# Altium integrated library TI Power Management DC-DC Controller (External Switch).IntLib: 349 symbols (part 23 of 28)
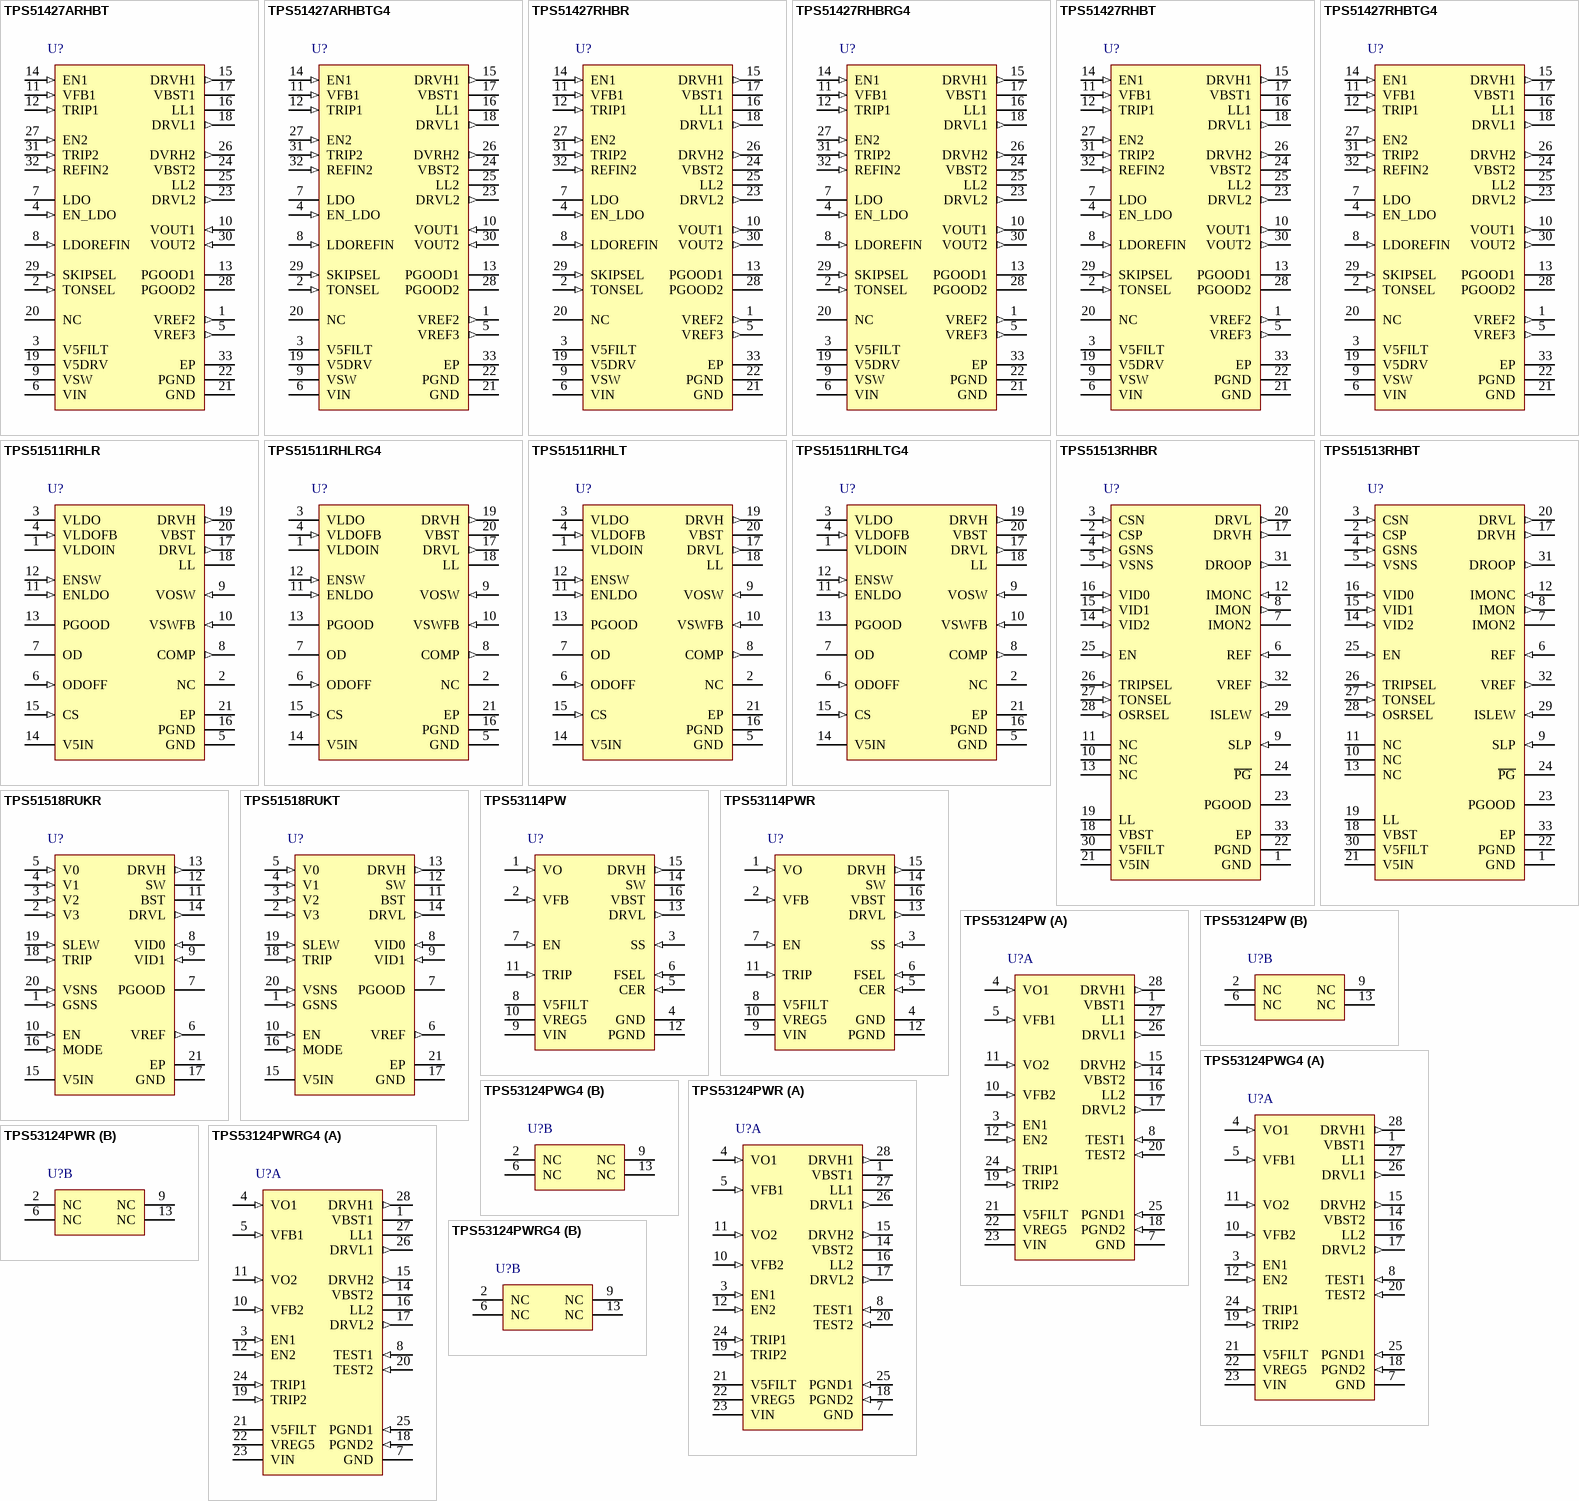
[diagram p36: symbols TPS51427ARHBT to TPS53124PWRG4]

## TPS53124PWR
designator U?
Dual Synchronous Step-Down Controller for Low Voltage Power Rails, 380 kHz Frequency, 89 % Duty Cycle, 4.5 to 24 V, -40 to 85 degC, 28-pin TSSOP (PW), Green (RoHS & no Sb/Br); Manufacturer: Texas Instruments; PartNumber: TPS53124PWR; Duty Cycle(Max)(%): 89; Iout(Max)(A): 15; Regulated Outputs(#): 2; SubFamily: Multiple-Output Switching Controller; Switching Frequency(Max)(kHz): 380; Synchronous Rectification: TRUE; Topology: Buck, D-CAP Mode"; Vin(Max)(V): 24; Vin(Min)(V): 4.5; Vout(Max)(V): 5.5; Vout(Min)(V): 0.76; DatasheetVersion: SLUS825B; PackageVersion: revG, Feb-2011; PackageReference: PW28; PackageDescription: 28-Pin Plastic Thin Small Outline Package 9.7 x 4.4 mm Body ,0.65 mm Pitch; Supplier 1: Digi-Key; Supplier Part Number 1: TPS53124PWR-ND; Supplier 2: Mouser; Supplier Part Number 2: 595-TPS53124PWR; Eco-Plan: Green (RoHS & no Sb/Br); Iout2(A): 15; Vout2(Max)(V): 5.5; Vout2(Min)(V): 0.76; Mounting Technology: Surface Mount; Code_JEDEC: MO-153; ComponentLink1Description: Datasheet; ComponentLink1URL: http://www.ti.com/general/docs/lit/getliterature.tsp?genericPartNumber=TPS53124&fileType=pdf; ComponentLink2Description: Package Specification; ComponentLink2URL: http://www.ti.com/litv/pdf/mpds364
footprint PW28_N (TSOP, 28-Leads, Body 9.7x4.4mm, Pitch 0.65mm, IPC Medium Density)
footprint PW28_L (TSOP, 28-Leads, Body 9.7x4.4mm, Pitch 0.65mm, IPC High Density)
footprint PW28_M (TSOP, 28-Leads, Body 9.7x4.4mm, Pitch 0.65mm, IPC Low Density)
part A pins: 1 VBST1 (power) "Supply input for high-side NFET driver (boost terminal). Connect capacitor from this pin to respective LL terminals. An internal PN diode is connected between VREG5 to each of these pins. User can add external schottky diode (See Datasheet)", 3 EN1 (in) "Channel 1 and Channel 2 enable pins.", 4 VO1 (in) "Output connections to SMPS. These terminals serve ON-time adjustment,output discharge.", 5 VFB1 (in) "SMPS feedback inputs. Connect with feedback resistor divider.", 7 GND (power) "Signal ground pin.", 8 TEST1 (in) "Used for test only. Pin should be connected to GND", 10 VFB2 (in) "SMPS feedback inputs. Connect with feedback resistor divider", 11 VO2 (in) "Output connections to SMPS. These terminals serve ON-time adjustment,output discharge.", 12 EN2 (in) "Channel 1 and Channel 2 enable pins.", 14 VBST2 (power) "Supply input for high-side NFET driver (boost terminal). Connect capacitor from this pin to respective LL terminals. An internal PN diode is connected between VREG5 to each of these pins. User can add external schottky diode (See Datasheet)", 15 DRVH2 (out) "High-side NFET driver outputs. LL referenced floating drivers. The gate drive voltage is defined by the voltage across VBST to LL node flying capacitor.", 16 LL2 (power) "Switch-node connections for high-side drivers. Also serve as input to current comparators.", 17 DRVL2 (out) "Synchronous NFET driver outputs. PGND referenced drivers. The gate drive voltage is defined by VREG5 voltage.", 18 PGND2 (in) "Ground returns for DRVL1 and DRVL2. Also serve as input of current comparators. Connect PGND1, PGND2 and GND strongly together near the device.", 19 TRIP2 (in) "Over-current trip point set input. Connect resistor from this pin to GND to set threshold for synchronous R DS(on) sense. Voltage across this pin and GND is compared to voltage across PGND and LL at over current comparator.", 20 TEST2 (in) "Used for test only. Pin should be connected to GND", 21 V5FILT (power) "5-V supply input for the entire control circuit except the NFET drivers. Connect capacitor (typical 1 µ F) from GND to V5FILT. V5FILT is connected to VREG5 via internal resistor.", 22 VREG5 (power) "5-V power supply output. VREG5 is connected to V5FILT via internal resistor.", 23 VIN (power) "Supply Input for 5-V linear regulator.", 24 TRIP1 (in) "Over-current trip point set input. Connect resistor from this pin to GND to set threshold for synchronous R DS(on) sense. Voltage across this pin and GND is compared to voltage across PGND and LL at over current comparator.", 25 PGND1 (in) "Ground returns for DRVL1 and DRVL2. Also serve as input of current comparators. Connect PGND1, PGND2 and GND strongly together near the device.", 26 DRVL1 (out) "Synchronous NFET driver outputs. PGND referenced drivers. The gate drive voltage is defined by VREG5 voltage.", 27 LL1 (power) "Switch-node connections for high-side drivers. Also serve as input to current comparators.", 28 DRVH1 (out) "High-side NFET driver outputs. LL referenced floating drivers. The gate drive voltage is defined by the voltage across VBST to LL node flying capacitor."
part B pins: 2 NC "Not Connect", 6 NC "Not Connect", 9 NC "Not Connect", 13 NC "Not Connect"

## TPS53124PWRG4
designator U?
Dual Synchronous Step-Down Controller for Low Voltage Power Rails, 380 kHz Frequency, 89 % Duty Cycle, 4.5 to 24 V, -40 to 85 degC, 28-pin TSSOP (PW), Green (RoHS & no Sb/Br); Manufacturer: Texas Instruments; PartNumber: TPS53124PWRG4; Duty Cycle(Max)(%): 89; Iout(Max)(A): 15; Regulated Outputs(#): 2; SubFamily: Multiple-Output Switching Controller; Switching Frequency(Max)(kHz): 380; Synchronous Rectification: TRUE; Topology: Buck, D-CAP Mode"; Vin(Max)(V): 24; Vin(Min)(V): 4.5; Vout(Max)(V): 5.5; Vout(Min)(V): 0.76; DatasheetVersion: SLUS825B; PackageVersion: revG, Feb-2011; PackageReference: PW28; PackageDescription: 28-Pin Plastic Thin Small Outline Package 9.7 x 4.4 mm Body ,0.65 mm Pitch; Supplier 1: Digi-Key; Supplier Part Number 1: TPS53124PWRG4-ND; Supplier 2: Mouser; Supplier Part Number 2: 595-TPS53124PWRG4; Eco-Plan: Green (RoHS & no Sb/Br); Iout2(A): 15; Vout2(Max)(V): 5.5; Vout2(Min)(V): 0.76; Mounting Technology: Surface Mount; Code_JEDEC: MO-153; ComponentLink1Description: Datasheet; ComponentLink1URL: http://www.ti.com/general/docs/lit/getliterature.tsp?genericPartNumber=TPS53124&fileType=pdf; ComponentLink2Description: Package Specification; ComponentLink2URL: http://www.ti.com/litv/pdf/mpds364
footprint PW28_N (TSOP, 28-Leads, Body 9.7x4.4mm, Pitch 0.65mm, IPC Medium Density)
footprint PW28_L (TSOP, 28-Leads, Body 9.7x4.4mm, Pitch 0.65mm, IPC High Density)
footprint PW28_M (TSOP, 28-Leads, Body 9.7x4.4mm, Pitch 0.65mm, IPC Low Density)
part A pins: 1 VBST1 (power) "Supply input for high-side NFET driver (boost terminal). Connect capacitor from this pin to respective LL terminals. An internal PN diode is connected between VREG5 to each of these pins. User can add external schottky diode (See Datasheet)", 3 EN1 (in) "Channel 1 and Channel 2 enable pins.", 4 VO1 (in) "Output connections to SMPS. These terminals serve ON-time adjustment,output discharge.", 5 VFB1 (in) "SMPS feedback inputs. Connect with feedback resistor divider.", 7 GND (power) "Signal ground pin.", 8 TEST1 (in) "Used for test only. Pin should be connected to GND", 10 VFB2 (in) "SMPS feedback inputs. Connect with feedback resistor divider", 11 VO2 (in) "Output connections to SMPS. These terminals serve ON-time adjustment,output discharge.", 12 EN2 (in) "Channel 1 and Channel 2 enable pins.", 14 VBST2 (power) "Supply input for high-side NFET driver (boost terminal). Connect capacitor from this pin to respective LL terminals. An internal PN diode is connected between VREG5 to each of these pins. User can add external schottky diode (See Datasheet)", 15 DRVH2 (out) "High-side NFET driver outputs. LL referenced floating drivers. The gate drive voltage is defined by the voltage across VBST to LL node flying capacitor.", 16 LL2 (power) "Switch-node connections for high-side drivers. Also serve as input to current comparators.", 17 DRVL2 (out) "Synchronous NFET driver outputs. PGND referenced drivers. The gate drive voltage is defined by VREG5 voltage.", 18 PGND2 (in) "Ground returns for DRVL1 and DRVL2. Also serve as input of current comparators. Connect PGND1, PGND2 and GND strongly together near the device.", 19 TRIP2 (in) "Over-current trip point set input. Connect resistor from this pin to GND to set threshold for synchronous R DS(on) sense. Voltage across this pin and GND is compared to voltage across PGND and LL at over current comparator.", 20 TEST2 (in) "Used for test only. Pin should be connected to GND", 21 V5FILT (power) "5-V supply input for the entire control circuit except the NFET drivers. Connect capacitor (typical 1 µ F) from GND to V5FILT. V5FILT is connected to VREG5 via internal resistor.", 22 VREG5 (power) "5-V power supply output. VREG5 is connected to V5FILT via internal resistor.", 23 VIN (power) "Supply Input for 5-V linear regulator.", 24 TRIP1 (in) "Over-current trip point set input. Connect resistor from this pin to GND to set threshold for synchronous R DS(on) sense. Voltage across this pin and GND is compared to voltage across PGND and LL at over current comparator.", 25 PGND1 (in) "Ground returns for DRVL1 and DRVL2. Also serve as input of current comparators. Connect PGND1, PGND2 and GND strongly together near the device.", 26 DRVL1 (out) "Synchronous NFET driver outputs. PGND referenced drivers. The gate drive voltage is defined by VREG5 voltage.", 27 LL1 (power) "Switch-node connections for high-side drivers. Also serve as input to current comparators.", 28 DRVH1 (out) "High-side NFET driver outputs. LL referenced floating drivers. The gate drive voltage is defined by the voltage across VBST to LL node flying capacitor."
part B pins: 2 NC "Not Connect", 6 NC "Not Connect", 9 NC "Not Connect", 13 NC "Not Connect"

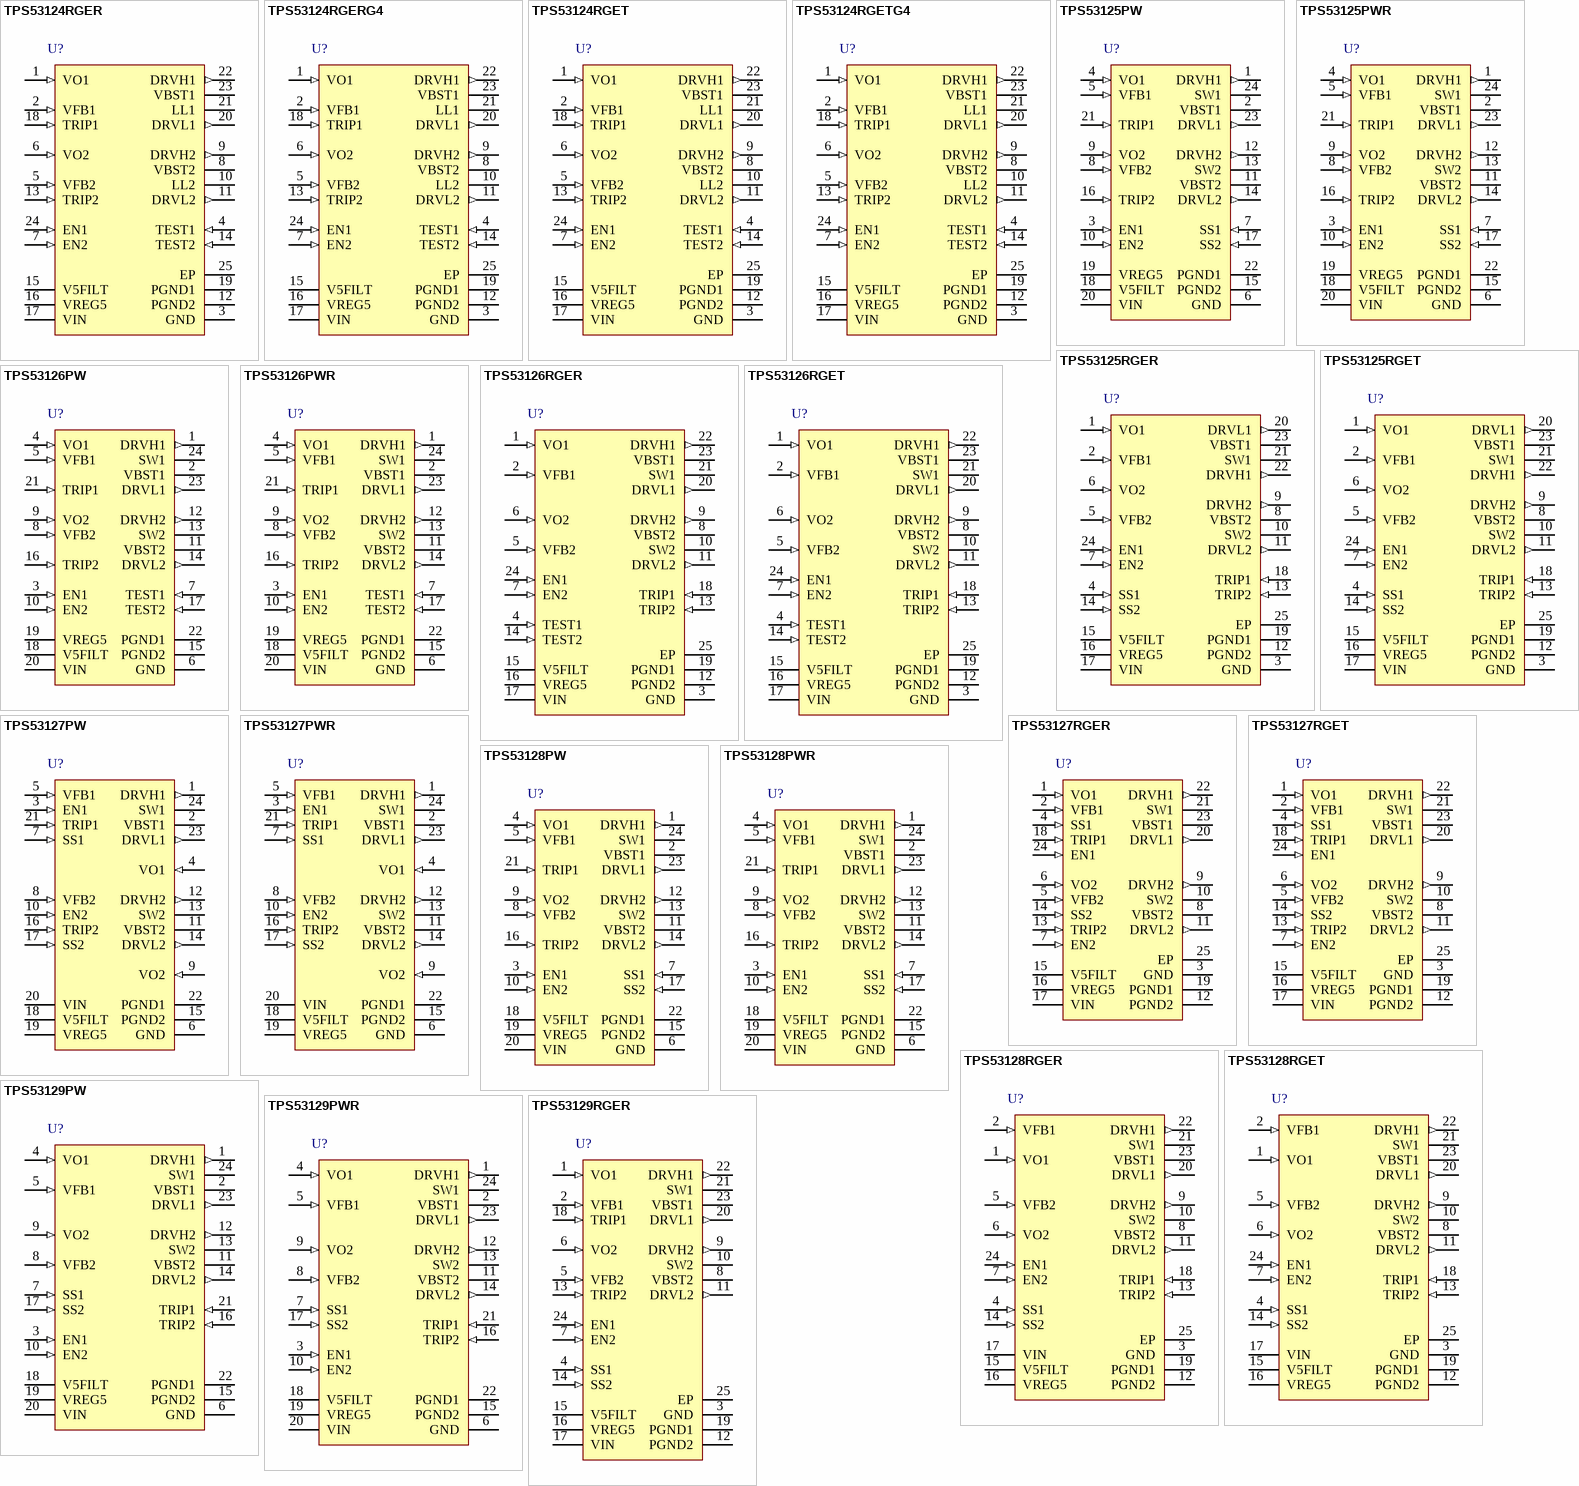
[diagram p12: symbols TPS53124RGER to TPS53129RGER]

## TPS53124RGER
designator U?
Dual Synchronous Step-Down Controller for Low Voltage Power Rails, 380 kHz Frequency, 89 % Duty Cycle, 4.5 to 24 V, -40 to 85 degC, 24-pin VQFN (RGE), Green (RoHS & no Sb/Br); Manufacturer: Texas Instruments; PartNumber: TPS53124RGER; Duty Cycle(Max)(%): 89; Iout(Max)(A): 15; Regulated Outputs(#): 2; SubFamily: Multiple-Output Switching Controller; Switching Frequency(Max)(kHz): 380; Synchronous Rectification: TRUE; Topology: Buck, D-CAP Mode"; Vin(Max)(V): 24; Vin(Min)(V): 4.5; Vout(Max)(V): 5.5; Vout(Min)(V): 0.76; DatasheetVersion: SLUS825B; PackageVersion: revG, Jul-2011; PackageReference: RGE24-2450X2450TP; PackageDescription: 24-Pin Plastic Quad Flatpack No-Lead, 4 x 4 mm Body, 0.5 mm Pitch; Supplier 1: Digi-Key; Supplier Part Number 1: 296-23171-2-ND; Supplier 2: Digi-Key; Supplier Part Number 2: 296-23171-1-ND; Supplier 3: Digi-Key; Supplier Part Number 3: 296-23171-6-ND; Supplier 4: Mouser; Supplier Part Number 4: 595-TPS53124RGER; Eco-Plan: Green (RoHS & no Sb/Br); Iout2(A): 15; Vout2(Max)(V): 5.5; Vout2(Min)(V): 0.76; Mounting Technology: Surface Mount; Code_JEDEC: MO-220; ComponentLink1Description: Datasheet; ComponentLink1URL: http://www.ti.com/general/docs/lit/getliterature.tsp?genericPartNumber=TPS53124&fileType=pdf; ComponentLink2Description: Package Specification; ComponentLink2URL: http://www.ti.com/litv/pdf/mpqf124f
footprint RGE24-2450X2450TP (QFN, 24-Leads, Body 4x4mm, Pitch 0.5mm, Thermal Pad 2.45x2.45mm, TI Recommended)
pins: 1 VO1 (in) "Output connections to SMPS. These terminals serve ON-time adjustment, output discharge.", 2 VFB1 (in) "SMPS feedback inputs. Connect with feedback resistor divider.", 3 GND (power) "Signal ground pin.", 4 TEST1 (in) "Used for test only. Pin should be connected to GND", 5 VFB2 (in) "SMPS feedback inputs. Connect with feedback resistor divider.", 6 VO2 (in) "Output connections to SMPS. These terminals serve ON-time adjustment, output discharge.", 7 EN2 (in) "Channel 2 enable pin.", 8 VBST2 (power) "Supply input for high-side NFET driver (boost terminal). Connect capacitor from this pin to respective LL terminals. An internal PN diode is connected between VREG5 to each of these pins. User can add external schottky diode (See Datasheet)", 9 DRVH2 (out) "High-side NFET driver outputs. LL referenced floating drivers. The gate drive voltage is defined by the voltage across VBST to LL node flying capacitor.", 10 LL2 (power) "Switch-node connections for high-side drivers. Also serve as input to current comparators.", 11 DRVL2 (out) "Synchronous NFET driver outputs. PGND referenced drivers. The gate drive voltage is defined by VREG5 voltage.", 12 PGND2 (power) "Ground returns for DRVL1 and DRVL2. Also serve as input of current comparators. Connect PGND1, PGND2 and GND strongly together near the device.", 13 TRIP2 (in) "Over-current trip point set input. Connect resistor from this pin to GND to set threshold for synchronous RDS(on) sense. Voltage across this pin and GND is compared to voltage across PGND and LL at over current comparator.", 14 TEST2 (in) "Used for test only. Pin should be connected to GND", 15 V5FILT (power) "5-V supply input for the entire control circuit except the NFET drivers. Connect capacitor (typical 1 mF) from GND to V5FILT. V5FILT is connected to VREG5 via internal resistor.", 16 VREG5 (power) "5-V power supply output. VREG5 is connected to V5FILT via internal resistor.", 17 VIN (power) "Supply Input for 5-V linear regulator.", 18 TRIP1 (in) "Over-current trip point set input. Connect resistor from this pin to GND to set threshold for synchronous RDS(on) sense. Voltage across this pin and GND is compared to voltage across PGND and LL at over current comparator.", 19 PGND1 (power) "Ground returns for DRVL1 and DRVL2. Also serve as input of current comparators. Connect PGND1, PGND2 and GND strongly together near the device.", 20 DRVL1 (out) "Synchronous NFET driver outputs. PGND referenced drivers. The gate drive voltage is defined by VREG5 voltage.", 21 LL1 (power) "Switch-node connections for high-side drivers. Also serve as input to current comparators.", 22 DRVH1 (out) "High-side NFET driver outputs. LL referenced floating drivers. The gate drive voltage is defined by the voltage across VBST to LL node flying capacitor.", 23 VBST1 (power) "Supply input for high-side NFET driver (boost terminal). Connect capacitor from this pin to respective LL terminals. An internal PN diode is connected between VREG5 to each of these pins. User can add external schottky diode (See Datasheet)", 24 EN1 (in) "Channel 1 enable pin.", 25 EP "Exposed Pad."

## TPS53124RGERG4
designator U?
Dual Synchronous Step-Down Controller for Low Voltage Power Rails, 380 kHz Frequency, 89 % Duty Cycle, 4.5 to 24 V, -40 to 85 degC, 24-pin VQFN (RGE), Green (RoHS & no Sb/Br); Manufacturer: Texas Instruments; PartNumber: TPS53124RGERG4; Duty Cycle(Max)(%): 89; Iout(Max)(A): 15; Regulated Outputs(#): 2; SubFamily: Multiple-Output Switching Controller; Switching Frequency(Max)(kHz): 380; Synchronous Rectification: TRUE; Topology: Buck, D-CAP Mode"; Vin(Max)(V): 24; Vin(Min)(V): 4.5; Vout(Max)(V): 5.5; Vout(Min)(V): 0.76; DatasheetVersion: SLUS825B; PackageVersion: revG, Jul-2011; PackageReference: RGE24-2450X2450TP; PackageDescription: 24-Pin Plastic Quad Flatpack No-Lead, 4 x 4 mm Body, 0.5 mm Pitch; Supplier 1: Digi-Key; Supplier Part Number 1: TPS53124RGERG4-ND; Supplier 2: Newark; Supplier Part Number 2: 34P6502; Supplier 3: Mouser; Supplier Part Number 3: 595-TPS53124RGERG4; Eco-Plan: Green (RoHS & no Sb/Br); Iout2(A): 15; Vout2(Max)(V): 5.5; Vout2(Min)(V): 0.76; Mounting Technology: Surface Mount; Code_JEDEC: MO-220; ComponentLink1Description: Datasheet; ComponentLink1URL: http://www.ti.com/general/docs/lit/getliterature.tsp?genericPartNumber=TPS53124&fileType=pdf; ComponentLink2Description: Package Specification; ComponentLink2URL: http://www.ti.com/litv/pdf/mpqf124f
footprint RGE24-2450X2450TP (QFN, 24-Leads, Body 4x4mm, Pitch 0.5mm, Thermal Pad 2.45x2.45mm, TI Recommended)
pins: 1 VO1 (in) "Output connections to SMPS. These terminals serve ON-time adjustment, output discharge.", 2 VFB1 (in) "SMPS feedback inputs. Connect with feedback resistor divider.", 3 GND (power) "Signal ground pin.", 4 TEST1 (in) "Used for test only. Pin should be connected to GND", 5 VFB2 (in) "SMPS feedback inputs. Connect with feedback resistor divider.", 6 VO2 (in) "Output connections to SMPS. These terminals serve ON-time adjustment, output discharge.", 7 EN2 (in) "Channel 2 enable pin.", 8 VBST2 (power) "Supply input for high-side NFET driver (boost terminal). Connect capacitor from this pin to respective LL terminals. An internal PN diode is connected between VREG5 to each of these pins. User can add external schottky diode (See Datasheet)", 9 DRVH2 (out) "High-side NFET driver outputs. LL referenced floating drivers. The gate drive voltage is defined by the voltage across VBST to LL node flying capacitor.", 10 LL2 (power) "Switch-node connections for high-side drivers. Also serve as input to current comparators.", 11 DRVL2 (out) "Synchronous NFET driver outputs. PGND referenced drivers. The gate drive voltage is defined by VREG5 voltage.", 12 PGND2 (power) "Ground returns for DRVL1 and DRVL2. Also serve as input of current comparators. Connect PGND1, PGND2 and GND strongly together near the device.", 13 TRIP2 (in) "Over-current trip point set input. Connect resistor from this pin to GND to set threshold for synchronous RDS(on) sense. Voltage across this pin and GND is compared to voltage across PGND and LL at over current comparator.", 14 TEST2 (in) "Used for test only. Pin should be connected to GND", 15 V5FILT (power) "5-V supply input for the entire control circuit except the NFET drivers. Connect capacitor (typical 1 mF) from GND to V5FILT. V5FILT is connected to VREG5 via internal resistor.", 16 VREG5 (power) "5-V power supply output. VREG5 is connected to V5FILT via internal resistor.", 17 VIN (power) "Supply Input for 5-V linear regulator.", 18 TRIP1 (in) "Over-current trip point set input. Connect resistor from this pin to GND to set threshold for synchronous RDS(on) sense. Voltage across this pin and GND is compared to voltage across PGND and LL at over current comparator.", 19 PGND1 (power) "Ground returns for DRVL1 and DRVL2. Also serve as input of current comparators. Connect PGND1, PGND2 and GND strongly together near the device.", 20 DRVL1 (out) "Synchronous NFET driver outputs. PGND referenced drivers. The gate drive voltage is defined by VREG5 voltage.", 21 LL1 (power) "Switch-node connections for high-side drivers. Also serve as input to current comparators.", 22 DRVH1 (out) "High-side NFET driver outputs. LL referenced floating drivers. The gate drive voltage is defined by the voltage across VBST to LL node flying capacitor.", 23 VBST1 (power) "Supply input for high-side NFET driver (boost terminal). Connect capacitor from this pin to respective LL terminals. An internal PN diode is connected between VREG5 to each of these pins. User can add external schottky diode (See Datasheet)", 24 EN1 (in) "Channel 1 enable pin.", 25 EP "Exposed Pad."

## TPS53124RGET
designator U?
Dual Synchronous Step-Down Controller for Low Voltage Power Rails, 380 kHz Frequency, 89 % Duty Cycle, 4.5 to 24 V, -40 to 85 degC, 24-pin VQFN (RGE), Green (RoHS & no Sb/Br); Manufacturer: Texas Instruments; PartNumber: TPS53124RGET; Duty Cycle(Max)(%): 89; Iout(Max)(A): 15; Regulated Outputs(#): 2; SubFamily: Multiple-Output Switching Controller; Switching Frequency(Max)(kHz): 380; Synchronous Rectification: TRUE; Topology: Buck, D-CAP Mode"; Vin(Max)(V): 24; Vin(Min)(V): 4.5; Vout(Max)(V): 5.5; Vout(Min)(V): 0.76; DatasheetVersion: SLUS825B; PackageVersion: revG, Jul-2011; PackageReference: RGE24-2450X2450TP; PackageDescription: 24-Pin Plastic Quad Flatpack No-Lead, 4 x 4 mm Body, 0.5 mm Pitch; Supplier 1: Digi-Key; Supplier Part Number 1: TPS53124RGET-ND; Supplier 2: Mouser; Supplier Part Number 2: 595-TPS53124RGET; Eco-Plan: Green (RoHS & no Sb/Br); Iout2(A): 15; Vout2(Max)(V): 5.5; Vout2(Min)(V): 0.76; Mounting Technology: Surface Mount; Code_JEDEC: MO-220; ComponentLink1Description: Datasheet; ComponentLink1URL: http://www.ti.com/general/docs/lit/getliterature.tsp?genericPartNumber=TPS53124&fileType=pdf; ComponentLink2Description: Package Specification; ComponentLink2URL: http://www.ti.com/litv/pdf/mpqf124f
footprint RGE24-2450X2450TP (QFN, 24-Leads, Body 4x4mm, Pitch 0.5mm, Thermal Pad 2.45x2.45mm, TI Recommended)
pins: 1 VO1 (in) "Output connections to SMPS. These terminals serve ON-time adjustment, output discharge.", 2 VFB1 (in) "SMPS feedback inputs. Connect with feedback resistor divider.", 3 GND (power) "Signal ground pin.", 4 TEST1 (in) "Used for test only. Pin should be connected to GND", 5 VFB2 (in) "SMPS feedback inputs. Connect with feedback resistor divider.", 6 VO2 (in) "Output connections to SMPS. These terminals serve ON-time adjustment, output discharge.", 7 EN2 (in) "Channel 2 enable pin.", 8 VBST2 (power) "Supply input for high-side NFET driver (boost terminal). Connect capacitor from this pin to respective LL terminals. An internal PN diode is connected between VREG5 to each of these pins. User can add external schottky diode (See Datasheet)", 9 DRVH2 (out) "High-side NFET driver outputs. LL referenced floating drivers. The gate drive voltage is defined by the voltage across VBST to LL node flying capacitor.", 10 LL2 (power) "Switch-node connections for high-side drivers. Also serve as input to current comparators.", 11 DRVL2 (out) "Synchronous NFET driver outputs. PGND referenced drivers. The gate drive voltage is defined by VREG5 voltage.", 12 PGND2 (power) "Ground returns for DRVL1 and DRVL2. Also serve as input of current comparators. Connect PGND1, PGND2 and GND strongly together near the device.", 13 TRIP2 (in) "Over-current trip point set input. Connect resistor from this pin to GND to set threshold for synchronous RDS(on) sense. Voltage across this pin and GND is compared to voltage across PGND and LL at over current comparator.", 14 TEST2 (in) "Used for test only. Pin should be connected to GND", 15 V5FILT (power) "5-V supply input for the entire control circuit except the NFET drivers. Connect capacitor (typical 1 mF) from GND to V5FILT. V5FILT is connected to VREG5 via internal resistor.", 16 VREG5 (power) "5-V power supply output. VREG5 is connected to V5FILT via internal resistor.", 17 VIN (power) "Supply Input for 5-V linear regulator.", 18 TRIP1 (in) "Over-current trip point set input. Connect resistor from this pin to GND to set threshold for synchronous RDS(on) sense. Voltage across this pin and GND is compared to voltage across PGND and LL at over current comparator.", 19 PGND1 (power) "Ground returns for DRVL1 and DRVL2. Also serve as input of current comparators. Connect PGND1, PGND2 and GND strongly together near the device.", 20 DRVL1 (out) "Synchronous NFET driver outputs. PGND referenced drivers. The gate drive voltage is defined by VREG5 voltage.", 21 LL1 (power) "Switch-node connections for high-side drivers. Also serve as input to current comparators.", 22 DRVH1 (out) "High-side NFET driver outputs. LL referenced floating drivers. The gate drive voltage is defined by the voltage across VBST to LL node flying capacitor.", 23 VBST1 (power) "Supply input for high-side NFET driver (boost terminal). Connect capacitor from this pin to respective LL terminals. An internal PN diode is connected between VREG5 to each of these pins. User can add external schottky diode (See Datasheet)", 24 EN1 (in) "Channel 1 enable pin.", 25 EP "Exposed Pad."

## TPS53124RGETG4
designator U?
Dual Synchronous Step-Down Controller for Low Voltage Power Rails, 380 kHz Frequency, 89 % Duty Cycle, 4.5 to 24 V, -40 to 85 degC, 24-pin VQFN (RGE), Green (RoHS & no Sb/Br); Manufacturer: Texas Instruments; PartNumber: TPS53124RGETG4; Duty Cycle(Max)(%): 89; Iout(Max)(A): 15; Regulated Outputs(#): 2; SubFamily: Multiple-Output Switching Controller; Switching Frequency(Max)(kHz): 380; Synchronous Rectification: TRUE; Topology: Buck, D-CAP Mode"; Vin(Max)(V): 24; Vin(Min)(V): 4.5; Vout(Max)(V): 5.5; Vout(Min)(V): 0.76; DatasheetVersion: SLUS825B; PackageVersion: revG, Jul-2011; PackageReference: RGE24-2450X2450TP; PackageDescription: 24-Pin Plastic Quad Flatpack No-Lead, 4 x 4 mm Body, 0.5 mm Pitch; Supplier 1: Digi-Key; Supplier Part Number 1: TPS53124RGETG4-ND; Supplier 2: Newark; Supplier Part Number 2: 34P6503; Supplier 3: Mouser; Supplier Part Number 3: 595-TPS53124RGETG4; Eco-Plan: Green (RoHS & no Sb/Br); Iout2(A): 15; Vout2(Max)(V): 5.5; Vout2(Min)(V): 0.76; Mounting Technology: Surface Mount; Code_JEDEC: MO-220; ComponentLink1Description: Datasheet; ComponentLink1URL: http://www.ti.com/general/docs/lit/getliterature.tsp?genericPartNumber=TPS53124&fileType=pdf; ComponentLink2Description: Package Specification; ComponentLink2URL: http://www.ti.com/litv/pdf/mpqf124f
footprint RGE24-2450X2450TP (QFN, 24-Leads, Body 4x4mm, Pitch 0.5mm, Thermal Pad 2.45x2.45mm, TI Recommended)
pins: 1 VO1 (in) "Output connections to SMPS. These terminals serve ON-time adjustment, output discharge.", 2 VFB1 (in) "SMPS feedback inputs. Connect with feedback resistor divider.", 3 GND (power) "Signal ground pin.", 4 TEST1 (in) "Used for test only. Pin should be connected to GND", 5 VFB2 (in) "SMPS feedback inputs. Connect with feedback resistor divider.", 6 VO2 (in) "Output connections to SMPS. These terminals serve ON-time adjustment, output discharge.", 7 EN2 (in) "Channel 2 enable pin.", 8 VBST2 (power) "Supply input for high-side NFET driver (boost terminal). Connect capacitor from this pin to respective LL terminals. An internal PN diode is connected between VREG5 to each of these pins. User can add external schottky diode (See Datasheet)", 9 DRVH2 (out) "High-side NFET driver outputs. LL referenced floating drivers. The gate drive voltage is defined by the voltage across VBST to LL node flying capacitor.", 10 LL2 (power) "Switch-node connections for high-side drivers. Also serve as input to current comparators.", 11 DRVL2 (out) "Synchronous NFET driver outputs. PGND referenced drivers. The gate drive voltage is defined by VREG5 voltage.", 12 PGND2 (power) "Ground returns for DRVL1 and DRVL2. Also serve as input of current comparators. Connect PGND1, PGND2 and GND strongly together near the device.", 13 TRIP2 (in) "Over-current trip point set input. Connect resistor from this pin to GND to set threshold for synchronous RDS(on) sense. Voltage across this pin and GND is compared to voltage across PGND and LL at over current comparator.", 14 TEST2 (in) "Used for test only. Pin should be connected to GND", 15 V5FILT (power) "5-V supply input for the entire control circuit except the NFET drivers. Connect capacitor (typical 1 mF) from GND to V5FILT. V5FILT is connected to VREG5 via internal resistor.", 16 VREG5 (power) "5-V power supply output. VREG5 is connected to V5FILT via internal resistor.", 17 VIN (power) "Supply Input for 5-V linear regulator.", 18 TRIP1 (in) "Over-current trip point set input. Connect resistor from this pin to GND to set threshold for synchronous RDS(on) sense. Voltage across this pin and GND is compared to voltage across PGND and LL at over current comparator.", 19 PGND1 (power) "Ground returns for DRVL1 and DRVL2. Also serve as input of current comparators. Connect PGND1, PGND2 and GND strongly together near the device.", 20 DRVL1 (out) "Synchronous NFET driver outputs. PGND referenced drivers. The gate drive voltage is defined by VREG5 voltage.", 21 LL1 (power) "Switch-node connections for high-side drivers. Also serve as input to current comparators.", 22 DRVH1 (out) "High-side NFET driver outputs. LL referenced floating drivers. The gate drive voltage is defined by the voltage across VBST to LL node flying capacitor.", 23 VBST1 (power) "Supply input for high-side NFET driver (boost terminal). Connect capacitor from this pin to respective LL terminals. An internal PN diode is connected between VREG5 to each of these pins. User can add external schottky diode (See Datasheet)", 24 EN1 (in) "Channel 1 enable pin.", 25 EP "Exposed Pad."

## TPS53125PW
designator U?
Dual Synchronous Step-Down Controller for Low Voltage Power Rails, 89 % Duty Cycle, 4.5 to 24 V, -40 to 85 degC, 24-pin TSSOP (PW), Green (RoHS & no Sb/Br); Manufacturer: Texas Instruments; PartNumber: TPS53125PW; Duty Cycle(Max)(%): 89; Iout(Max)(A): 15; Regulated Outputs(#): 2; SubFamily: Multiple-Output Switching Controller; Switching Frequency(Max)(kHz): 350; Synchronous Rectification: TRUE; Topology: Buck, D-CAP 2 Mode"; Vin(Max)(V): 24; Vin(Min)(V): 4.5; Vout(Max)(V): 5.5; Vout(Min)(V): 0.76; DatasheetVersion: SLVS947B; PackageVersion: revG, Feb-2011; PackageReference: PW24; PackageDescription: 24-Pin Thin Small Outline Package 0.65 mm Pitch; Supplier 1: Digi-Key; Supplier Part Number 1: TPS53125PW-ND; Supplier 2: Newark; Supplier Part Number 2: 55R7576; Supplier 3: Mouser; Supplier Part Number 3: 595-TPS53125PW; Eco-Plan: Green (RoHS & no Sb/Br); Iout2(A): 15; Vout2(Max)(V): 5.5; Vout2(Min)(V): 0.76; Mounting Technology: Surface Mount; Code_JEDEC: MO-153; ComponentLink1Description: Datasheet; ComponentLink1URL: http://www.ti.com/general/docs/lit/getliterature.tsp?genericPartNumber=TPS53125&fileType=pdf; ComponentLink2Description: Package Specification; ComponentLink2URL: http://www.ti.com/litv/pdf/mpds177g
footprint PW24_N (TSOP, 24-Leads, Body 7.8x4.4mm, Pitch 0.65mm, IPC Medium Density)
footprint PW24_L (TSOP, 24-Leads, Body 7.8x4.4mm, Pitch 0.65mm, IPC High Density)
footprint PW24_M (TSOP, 24-Leads, Body 7.8x4.4mm, Pitch 0.65mm, IPC Low Density)
pins: 1 DRVH1 (out) "High-side N-Channel MOSFET gate driver outputs. SWx referenced drivers switch between SWx (OFF) and VBSTx (ON).", 2 VBST1 (power) "Supply input for high-side NFET driver. Bypass to SWx with a high-quality 0.1-uF ceramic capacitor. An external schottky diode can be added from VREG5 if forward drop is critical to drive the high-side FET.", 3 EN1 (in) "Enable. Pull High to enable SMPS.", 4 VO1 (in) "Output voltage inputs for on-time adjustment and output discharge. Connect directly to the output voltage.", 5 VFB1 (in) "D-CAP2 feedback inputs. Connect to output voltage with resistor divider.", 6 GND (power) "Signal ground pin. Connect to PGND1, PGND2 and system ground at a single point.", 7 SS1 (in) "Soft-start programming pin. Connect capacitor from SSx pin to GND to program soft-start time.", 8 VFB2 (in) "D-CAP2 feedback inputs. Connect to output voltage with resistor divider.", 9 VO2 (in) "Output voltage inputs for on-time adjustment and output discharge. Connect directly to the output voltage.", 10 EN2 (in) "Enable. Pull High to enable SMPS.", 11 VBST2 (power) "Supply input for high-side NFET driver. Bypass to SWx with a high-quality 0.1-uF ceramic capacitor. An external schottky diode can be added from VREG5 if forward drop is critical to drive the high-side FET.", 12 DRVH2 (out) "High-side N-Channel MOSFET gate driver outputs. SWx referenced drivers switch between SWx (OFF) and VBSTx (ON).", 13 SW2 (power) "Switch node connections for both the high-side drivers and the over current comparators.", 14 DRVL2 (out) "Low-side N-Channel MOSFET gate driver outputs. PGND referenced drivers switch between PGNDx (OFF) and VREG5 (ON).", 15 PGND2 (power) "Power ground connections for both the low-side drivers and the over current comparators. Connect PGND1, PGND2 and GND strongly together near the IC.", 16 TRIP2 (in) "Over current threshold programming pin. Connect to GND with a resistor to GND to set threshold for low-side RDS(ON) current limit.", 17 SS2 (in) "Soft-start programming pin. Connect capacitor from SSx pin to GND to program soft-start time.", 18 V5FILT (power) "5-V supply input for the entire control circuitry except the MOSFET drivers. Bypass to GND with a minimum high-quality 1.0-uF ceramic capacitor. V5FILT is connected to VREG5 via an internal 10-ohm resistor.", 19 VREG5 (power) "Output of 5-V linear regulator and supply for MOSFET drivers. Bypass to GND with a minimum high-quality 4.7-uF ceramic capacitor. VREG5 is connected to V5FILT via an internal 10-ohm resistor.", 20 VIN (power) "Supply Input for 5-V linear regulator. Bypass to GND with a minimum high-quality 0.1-uF ceramic capacitor.", 21 TRIP1 (in) "Over current threshold programming pin. Connect to GND with a resistor to GND to set threshold for low-side RDS(ON) current limit.", 22 PGND1 (power) "Power ground connections for both the low-side drivers and the over current comparators. Connect PGND1, PGND2 and GND strongly together near the IC.", 23 DRVL1 (out) "Low-side N-Channel MOSFET gate driver outputs. PGND referenced drivers switch between PGNDx (OFF) and VREG5 (ON).", 24 SW1 (power) "Switch node connections for both the high-side drivers and the over current comparators."

## TPS53125PWR
designator U?
Dual Synchronous Step-Down Controller for Low Voltage Power Rails, 89 % Duty Cycle, 4.5 to 24 V, -40 to 85 degC, 24-pin TSSOP (PW), Green (RoHS & no Sb/Br); Manufacturer: Texas Instruments; PartNumber: TPS53125PWR; Duty Cycle(Max)(%): 89; Iout(Max)(A): 15; Regulated Outputs(#): 2; SubFamily: Multiple-Output Switching Controller; Switching Frequency(Max)(kHz): 350; Synchronous Rectification: TRUE; Topology: Buck, D-CAP 2 Mode"; Vin(Max)(V): 24; Vin(Min)(V): 4.5; Vout(Max)(V): 5.5; Vout(Min)(V): 0.76; DatasheetVersion: SLVS947B; PackageVersion: revG, Feb-2011; PackageReference: PW24; PackageDescription: 24-Pin Thin Small Outline Package 0.65 mm Pitch; Supplier 1: Digi-Key; Supplier Part Number 1: TPS53125PWR-ND; Supplier 2: Newark; Supplier Part Number 2: 55R7577; Supplier 3: Mouser; Supplier Part Number 3: 595-TPS53125PWR; Eco-Plan: Green (RoHS & no Sb/Br); Iout2(A): 15; Vout2(Max)(V): 5.5; Vout2(Min)(V): 0.76; Mounting Technology: Surface Mount; Code_JEDEC: MO-153; ComponentLink1Description: Datasheet; ComponentLink1URL: http://www.ti.com/general/docs/lit/getliterature.tsp?genericPartNumber=TPS53125&fileType=pdf; ComponentLink2Description: Package Specification; ComponentLink2URL: http://www.ti.com/litv/pdf/mpds177g
footprint PW24_N (TSOP, 24-Leads, Body 7.8x4.4mm, Pitch 0.65mm, IPC Medium Density)
footprint PW24_L (TSOP, 24-Leads, Body 7.8x4.4mm, Pitch 0.65mm, IPC High Density)
footprint PW24_M (TSOP, 24-Leads, Body 7.8x4.4mm, Pitch 0.65mm, IPC Low Density)
pins: 1 DRVH1 (out) "High-side N-Channel MOSFET gate driver outputs. SWx referenced drivers switch between SWx (OFF) and VBSTx (ON).", 2 VBST1 (power) "Supply input for high-side NFET driver. Bypass to SWx with a high-quality 0.1-uF ceramic capacitor. An external schottky diode can be added from VREG5 if forward drop is critical to drive the high-side FET.", 3 EN1 (in) "Enable. Pull High to enable SMPS.", 4 VO1 (in) "Output voltage inputs for on-time adjustment and output discharge. Connect directly to the output voltage.", 5 VFB1 (in) "D-CAP2 feedback inputs. Connect to output voltage with resistor divider.", 6 GND (power) "Signal ground pin. Connect to PGND1, PGND2 and system ground at a single point.", 7 SS1 (in) "Soft-start programming pin. Connect capacitor from SSx pin to GND to program soft-start time.", 8 VFB2 (in) "D-CAP2 feedback inputs. Connect to output voltage with resistor divider.", 9 VO2 (in) "Output voltage inputs for on-time adjustment and output discharge. Connect directly to the output voltage.", 10 EN2 (in) "Enable. Pull High to enable SMPS.", 11 VBST2 (power) "Supply input for high-side NFET driver. Bypass to SWx with a high-quality 0.1-uF ceramic capacitor. An external schottky diode can be added from VREG5 if forward drop is critical to drive the high-side FET.", 12 DRVH2 (out) "High-side N-Channel MOSFET gate driver outputs. SWx referenced drivers switch between SWx (OFF) and VBSTx (ON).", 13 SW2 (power) "Switch node connections for both the high-side drivers and the over current comparators.", 14 DRVL2 (out) "Low-side N-Channel MOSFET gate driver outputs. PGND referenced drivers switch between PGNDx (OFF) and VREG5 (ON).", 15 PGND2 (power) "Power ground connections for both the low-side drivers and the over current comparators. Connect PGND1, PGND2 and GND strongly together near the IC.", 16 TRIP2 (in) "Over current threshold programming pin. Connect to GND with a resistor to GND to set threshold for low-side RDS(ON) current limit.", 17 SS2 (in) "Soft-start programming pin. Connect capacitor from SSx pin to GND to program soft-start time.", 18 V5FILT (power) "5-V supply input for the entire control circuitry except the MOSFET drivers. Bypass to GND with a minimum high-quality 1.0-uF ceramic capacitor. V5FILT is connected to VREG5 via an internal 10-ohm resistor.", 19 VREG5 (power) "Output of 5-V linear regulator and supply for MOSFET drivers. Bypass to GND with a minimum high-quality 4.7-uF ceramic capacitor. VREG5 is connected to V5FILT via an internal 10-ohm resistor.", 20 VIN (power) "Supply Input for 5-V linear regulator. Bypass to GND with a minimum high-quality 0.1-uF ceramic capacitor.", 21 TRIP1 (in) "Over current threshold programming pin. Connect to GND with a resistor to GND to set threshold for low-side RDS(ON) current limit.", 22 PGND1 (power) "Power ground connections for both the low-side drivers and the over current comparators. Connect PGND1, PGND2 and GND strongly together near the IC.", 23 DRVL1 (out) "Low-side N-Channel MOSFET gate driver outputs. PGND referenced drivers switch between PGNDx (OFF) and VREG5 (ON).", 24 SW1 (power) "Switch node connections for both the high-side drivers and the over current comparators."

## TPS53125RGER
designator U?
Dual Synchronous Step-Down Controller for Low Voltage Power Rails, 89 % Duty Cycle, 4.5 to 24 V, -40 to 85 degC, 24-pin VQFN (RGE), Green (RoHS & no Sb/Br); Manufacturer: Texas Instruments; PartNumber: TPS53125RGER; Duty Cycle(Max)(%): 89; Iout(Max)(A): 15; Regulated Outputs(#): 2; SubFamily: Multiple-Output Switching Controller; Switching Frequency(Max)(kHz): 350; Synchronous Rectification: TRUE; Topology: Buck, D-CAP 2 Mode"; Vin(Max)(V): 24; Vin(Min)(V): 4.5; Vout(Max)(V): 5.5; Vout(Min)(V): 0.76; DatasheetVersion: SLVS947B; PackageVersion: revG, Jul-2011; PackageReference: RGE24-2450X2450TP; PackageDescription: 24-Pin Plastic Quad Flatpack No-Lead, 4 x 4 mm Body, 0.5 mm Pitch; Supplier 1: Digi-Key; Supplier Part Number 1: TPS53125RGER-ND; Supplier 2: Newark; Supplier Part Number 2: 64R0753; Supplier 3: Mouser; Supplier Part Number 3: 595-TPS53125RGER; Eco-Plan: Green (RoHS & no Sb/Br); Iout2(A): 15; Vout2(Max)(V): 5.5; Vout2(Min)(V): 0.76; Mounting Technology: Surface Mount; Code_JEDEC: MO-220; ComponentLink1Description: Datasheet; ComponentLink1URL: http://www.ti.com/general/docs/lit/getliterature.tsp?genericPartNumber=TPS53125&fileType=pdf; ComponentLink2Description: Package Specification; ComponentLink2URL: http://www.ti.com/litv/pdf/mpqf124f
footprint RGE24-2450X2450TP (QFN, 24-Leads, Body 4x4mm, Pitch 0.5mm, Thermal Pad 2.45x2.45mm, TI Recommended)
pins: 1 VO1 (in) "Output voltage inputs for on-time adjustment and output discharge. Connect directly to the output voltage.", 2 VFB1 (in) "D-CAP2 feedback inputs. Connect to output voltage with resistor divider.", 3 GND (power) "Signal ground pin. Connect to PGND1, PGND2 and system ground at a single point.", 4 SS1 (in) "Soft-start programming pin. Connect capacitor from SSx pin to GND to program soft-start time.", 5 VFB2 (in) "D-CAP2 feedback inputs. Connect to output voltage with resistor divider.", 6 VO2 (in) "Output voltage inputs for on-time adjustment and output discharge. Connect directly to the output voltage.", 7 EN2 (in) "Enable. Pull High to enable SMPS.", 8 VBST2 (power) "Supply input for high-side NFET driver. Bypass to SWx with a high-quality 0.1-uF ceramic capacitor. An external schottky diode can be added from VREG5 if forward drop is critical to drive the high-side FET.", 9 DRVH2 (out) "High-side N-Channel MOSFET gate driver outputs. SWx referenced drivers switch between SWx (OFF) and VBSTx (ON).", 10 SW2 (power) "Switch node connections for both the high-side drivers and the over current comparators.", 11 DRVL2 (out) "Low-side N-Channel MOSFET gate driver outputs. PGND referenced drivers switch between PGNDx (OFF) and VREG5 (ON).", 12 PGND2 (power) "Power ground connections for both the low-side drivers and the over current comparators. Connect PGND1, PGND2 and GND strongly together near the IC.", 13 TRIP2 (in) "Over current threshold programming pin. Connect to GND with a resistor to GND to set threshold for low-side RDS(ON) current limit.", 14 SS2 (in) "Soft-start programming pin. Connect capacitor from SSx pin to GND to program soft-start time.", 15 V5FILT (power) "5-V supply input for the entire control circuitry except the MOSFET drivers.Bypass to GND with a minimum high-quality 1.0-uF ceramic capacitor. V5FILT is connected to VREG5 via an internal 10-ohm resistor.", 16 VREG5 (power) "Output of 5-V linear regulator and supply for MOSFET drivers. Bypass to GND with a minimum high-quality 4.7-uF ceramic capacitor. VREG5 is connected to V5FILT via an internal 10-ohm resistor.", 17 VIN (power) "Supply Input for 5-V linear regulator. Bypass to GND with a minimum high-quality 0.1-uF ceramic capacitor.", 18 TRIP1 (in) "Over current threshold programming pin. Connect to GND with a resistor to GND to set threshold for low-side RDS(ON) current limit.", 19 PGND1 (power) "Power ground connections for both the low-side drivers and the over current comparators. Connect PGND1, PGND2 and GND strongly together near the IC.", 20 DRVL1 (out) "Low-side N-Channel MOSFET gate driver outputs. PGND referenced drivers switch between PGNDx (OFF) and VREG5 (ON).", 21 SW1 (power) "Switch node connections for both the high-side drivers and the over current comparators.", 22 DRVH1 (out) "High-side N-Channel MOSFET gate driver outputs. SWx referenced drivers switch between SWx (OFF) and VBSTx (ON).", 23 VBST1 (power) "Supply input for high-side NFET driver. Bypass to SWx with a high-quality 0.1-uF ceramic capacitor. An external schottky diode can be added from VREG5 if forward drop is critical to drive the high-side FET.", 24 EN1 (in) "Enable. Pull High to enable SMPS.", 25 EP

## TPS53125RGET
designator U?
Dual Synchronous Step-Down Controller for Low Voltage Power Rails, 89 % Duty Cycle, 4.5 to 24 V, -40 to 85 degC, 24-pin VQFN (RGE), Green (RoHS & no Sb/Br); Manufacturer: Texas Instruments; PartNumber: TPS53125RGET; Duty Cycle(Max)(%): 89; Iout(Max)(A): 15; Regulated Outputs(#): 2; SubFamily: Multiple-Output Switching Controller; Switching Frequency(Max)(kHz): 350; Synchronous Rectification: TRUE; Topology: Buck, D-CAP 2 Mode"; Vin(Max)(V): 24; Vin(Min)(V): 4.5; Vout(Max)(V): 5.5; Vout(Min)(V): 0.76; DatasheetVersion: SLVS947B; PackageVersion: revG, Jul-2011; PackageReference: RGE24-2450X2450TP; PackageDescription: 24-Pin Plastic Quad Flatpack No-Lead, 4 x 4 mm Body, 0.5 mm Pitch; Supplier 1: Digi-Key; Supplier Part Number 1: 296-25653-2-ND; Supplier 2: Digi-Key; Supplier Part Number 2: 296-25653-1-ND; Supplier 3: Digi-Key; Supplier Part Number 3: 296-25653-6-ND; Supplier 4: Mouser; Supplier Part Number 4: 595-TPS53125RGET; Eco-Plan: Green (RoHS & no Sb/Br); Iout2(A): 15; Vout2(Max)(V): 5.5; Vout2(Min)(V): 0.76; Mounting Technology: Surface Mount; Code_JEDEC: MO-220; ComponentLink1Description: Datasheet; ComponentLink1URL: http://www.ti.com/general/docs/lit/getliterature.tsp?genericPartNumber=TPS53125&fileType=pdf; ComponentLink2Description: Package Specification; ComponentLink2URL: http://www.ti.com/litv/pdf/mpqf124f
footprint RGE24-2450X2450TP (QFN, 24-Leads, Body 4x4mm, Pitch 0.5mm, Thermal Pad 2.45x2.45mm, TI Recommended)
pins: 1 VO1 (in) "Output voltage inputs for on-time adjustment and output discharge. Connect directly to the output voltage.", 2 VFB1 (in) "D-CAP2 feedback inputs. Connect to output voltage with resistor divider.", 3 GND (power) "Signal ground pin. Connect to PGND1, PGND2 and system ground at a single point.", 4 SS1 (in) "Soft-start programming pin. Connect capacitor from SSx pin to GND to program soft-start time.", 5 VFB2 (in) "D-CAP2 feedback inputs. Connect to output voltage with resistor divider.", 6 VO2 (in) "Output voltage inputs for on-time adjustment and output discharge. Connect directly to the output voltage.", 7 EN2 (in) "Enable. Pull High to enable SMPS.", 8 VBST2 (power) "Supply input for high-side NFET driver. Bypass to SWx with a high-quality 0.1-uF ceramic capacitor. An external schottky diode can be added from VREG5 if forward drop is critical to drive the high-side FET.", 9 DRVH2 (out) "High-side N-Channel MOSFET gate driver outputs. SWx referenced drivers switch between SWx (OFF) and VBSTx (ON).", 10 SW2 (power) "Switch node connections for both the high-side drivers and the over current comparators.", 11 DRVL2 (out) "Low-side N-Channel MOSFET gate driver outputs. PGND referenced drivers switch between PGNDx (OFF) and VREG5 (ON).", 12 PGND2 (power) "Power ground connections for both the low-side drivers and the over current comparators. Connect PGND1, PGND2 and GND strongly together near the IC.", 13 TRIP2 (in) "Over current threshold programming pin. Connect to GND with a resistor to GND to set threshold for low-side RDS(ON) current limit.", 14 SS2 (in) "Soft-start programming pin. Connect capacitor from SSx pin to GND to program soft-start time.", 15 V5FILT (power) "5-V supply input for the entire control circuitry except the MOSFET drivers.Bypass to GND with a minimum high-quality 1.0-uF ceramic capacitor. V5FILT is connected to VREG5 via an internal 10-ohm resistor.", 16 VREG5 (power) "Output of 5-V linear regulator and supply for MOSFET drivers. Bypass to GND with a minimum high-quality 4.7-uF ceramic capacitor. VREG5 is connected to V5FILT via an internal 10-ohm resistor.", 17 VIN (power) "Supply Input for 5-V linear regulator. Bypass to GND with a minimum high-quality 0.1-uF ceramic capacitor.", 18 TRIP1 (in) "Over current threshold programming pin. Connect to GND with a resistor to GND to set threshold for low-side RDS(ON) current limit.", 19 PGND1 (power) "Power ground connections for both the low-side drivers and the over current comparators. Connect PGND1, PGND2 and GND strongly together near the IC.", 20 DRVL1 (out) "Low-side N-Channel MOSFET gate driver outputs. PGND referenced drivers switch between PGNDx (OFF) and VREG5 (ON).", 21 SW1 (power) "Switch node connections for both the high-side drivers and the over current comparators.", 22 DRVH1 (out) "High-side N-Channel MOSFET gate driver outputs. SWx referenced drivers switch between SWx (OFF) and VBSTx (ON).", 23 VBST1 (power) "Supply input for high-side NFET driver. Bypass to SWx with a high-quality 0.1-uF ceramic capacitor. An external schottky diode can be added from VREG5 if forward drop is critical to drive the high-side FET.", 24 EN1 (in) "Enable. Pull High to enable SMPS.", 25 EP